# Altium schematic symbol library Schlib1.SchLib: 17 symbols
Pins are listed as number, name and electrical type; pins without a type are passive.

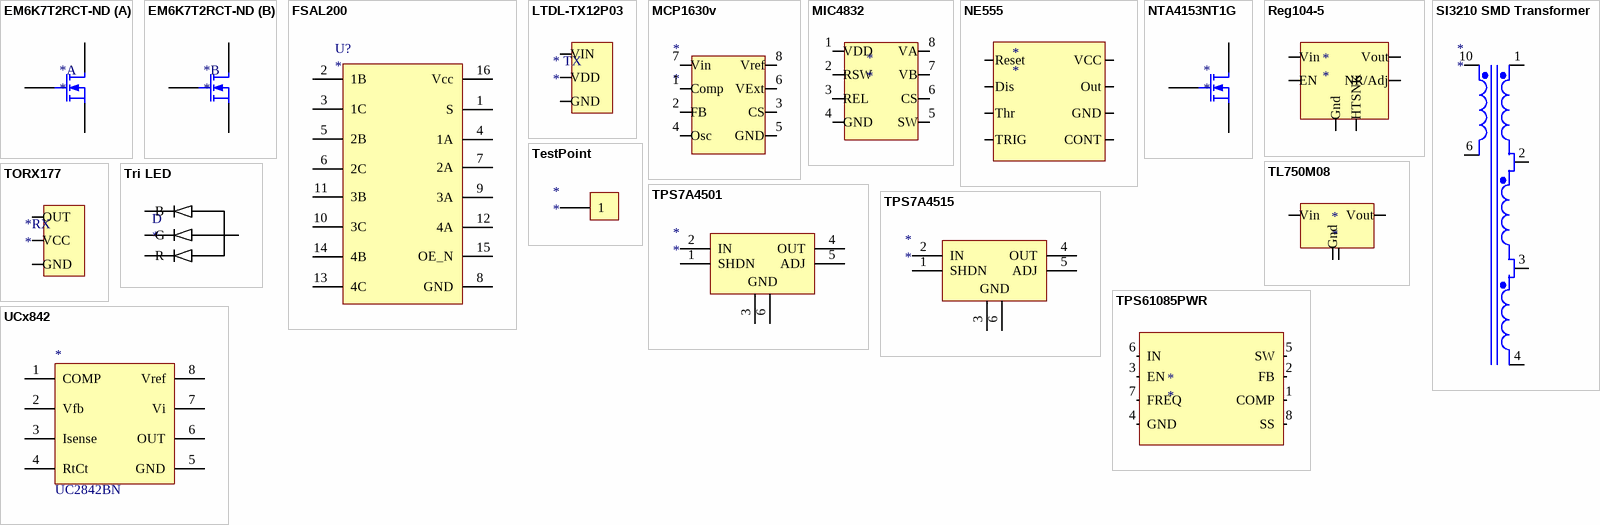
[diagram p0: symbols EM6K7T2RCT-ND to UCx842]

## EM6K7T2RCT-ND
designator *
Supplier 1: Digi-Key
footprint EM6K7T2R-EMT6 (Rohm Dual Channel NMOS)
part A pins: 1 S, 2 G, 6 D
part B pins: 3 D, 4 S, 5 G

## FSAL200
designator U?
ST Quad Bi-Directional Logic Switch
pins: 1 S, 2 1B, 3 1C, 4 1A, 5 2B, 6 2C, 7 2A, 8 GND, 9 3A, 10 3C, 11 3B, 12 4A, 13 4C, 14 4B, 15 OE_N, 16 Vcc

## LTDL-TX12P03
designator * TX
Optical transmitter
pins: 1 VIN, 2 VDD, 3 GND

## MCP1630v
designator *
pins: 1 Comp, 2 FB, 3 CS, 4 Osc, 5 GND, 6 VExt, 7 Vin, 8 Vref

## MIC4832
designator *
pins: 1 VDD, 2 RSW, 3 REL, 4 GND, 5 SW, 6 CS, 7 VB, 8 VA

## NE555
designator *
pins: 1 GND, 2 TRIG, 3 Out, 4 Reset, 5 CONT, 6 Thr, 7 Dis, 8 VCC

## NTA4153NT1G
designator *
Supplier 1: Digi-Key
pins: 1 D, 2 G, 3 S

## Reg104-5
designator *
pins: 1 Vin, 2 Vout, 3 Gnd, 4 NR/Adj, 5 EN, 6 HTSNK

## SI3210 SMD Transformer
designator *
pins: 1 Sec1+, 2 Sec2+, 3 Sec3+, 4 Sec3-, 6 Pri-, 10 Pri+

## TestPoint
designator *
footprint TestPoint
pins: 1

## TL750M08
designator *
pins: 1 Vin, 2 Gnd, 3 Vout, 4 Gnd

## TORX177
designator *RX
Optical receiver module
pins: 1 OUT, 2 GND, 3 VCC

## TPS7A4501
designator *
pins: 1 SHDN, 2 IN (power), 3 GND (power), 4 OUT (power), 5 ADJ, 6 GND (power)

## TPS7A4515
designator *
pins: 1 SHDN, 2 IN (power), 3 GND (power), 4 OUT (power), 5 ADJ, 6 GND (power)

## TPS61085PWR
designator *
pins: 1 COMP, 2 FB, 3 EN, 4 GND, 5 SW, 6 IN, 7 FREQ, 8 SS

## Tri LED
designator D
pins: 1 R, 2 Common, 3 B, 4 G

## UCx842
designator *, comment UC2842BN
pins: 1 COMP, 2 Vfb, 3 Isense, 4 RtCt, 5 GND, 6 OUT, 7 Vi, 8 Vref